# EAGLE library part 43160-*04 (library molexmod)
SDA-43160 Connector Source: http://www.molex.com/pdm_docs/sd/431601306_sd.pdf
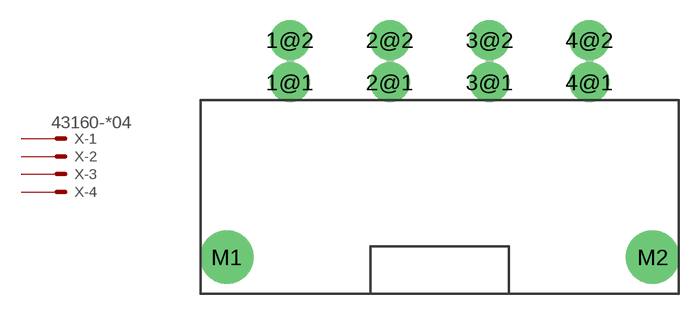
[diagram p180: symbol with the pads of 43160-XX04; footprint 43160-XX04]

Designator prefix X; gates -1=MV2 -2=M2 -3=M2 -4=M2

## 43160-1104 (MF: WALDOM/MOLEX; MPN: 43160-1104; OC_FARNELL: unknown; OC_NEWARK: 54H0257), 43160-1204 (MF: MOLEX; OC_FARNELL: unknown; OC_NEWARK: unknown), 43160-1304 (MF: MOLEX; MPN: 43160-1304; OC_FARNELL: unknown; OC_NEWARK: 92M1482), 43160-1404 (MF: MOLEX; OC_FARNELL: unknown; OC_NEWARK: unknown), 43160-3104 (MF: FARNELL; MPN: 43160-3104; OC_FARNELL: 3293051; OC_NEWARK: 19J5462), 43160-3204 (MF: MOLEX; OC_FARNELL: unknown; OC_NEWARK: unknown), 43160-5104 (MF: MOLEX; MPN: 43160-5104; OC_FARNELL: unknown; OC_NEWARK: 92M1495), 43160-5204 (MF: MOLEX; OC_FARNELL: unknown; OC_NEWARK: unknown), 43160-5304 (MF: MOLEX; MPN: 43160-5304; OC_FARNELL: unknown; OC_NEWARK: 92M1500), 43160-5404 (MF: MOLEX; OC_FARNELL: unknown; OC_NEWARK: unknown), 43160-7304 (MF: MOLEX; MPN: 43160-7304; OC_FARNELL: unknown; OC_NEWARK: 92M1509), 43160-7404 (MF: MOLEX; OC_FARNELL: unknown; OC_NEWARK: unknown)  [43160-XX04]
1@1  -1:S  pas
1@2  -1:S  pas
2@1  -2:S  pas
2@2  -2:S  pas
3@1  -3:S  pas
3@2  -3:S  pas
4@1  -4:S  pas
4@2  -4:S  pas

## Footprint 43160-XX04 (pad centres in mm)
7.50mm Pitch Sabre™ Header, Right Angle, 4 Circuits, Glow Wire Capable, PCB Thickness 3.20mm, with Board Lock Datasheet <http://www.molex.com/pdm_docs/sd/431607304_sd.pdf>
drill 1.8 pad 3: 1@1 -11.235,0; 1@2 -11.235,3.18; 2@1 -3.745,0; 2@2 -3.745,3.18; 3@1 3.745,0; 3@2 3.745,3.18; 4@1 11.235,0; 4@2 11.235,3.18
drill 3 pad 3.4: M1 -15.985,-13.13; M2 15.985,-13.13